# Altium footprint library HC49.PcbLib: 1 footprints
Each footprint in its own frame and in the unit in brackets; x right, y up, seen from the top. Pads: shape width x height; smd on the part's side, far side on the other; paste and mask are expansions set on the pad; w line width, h text height; cw(c..) or ccw(c..) is an arc to the next point about the centre after c.
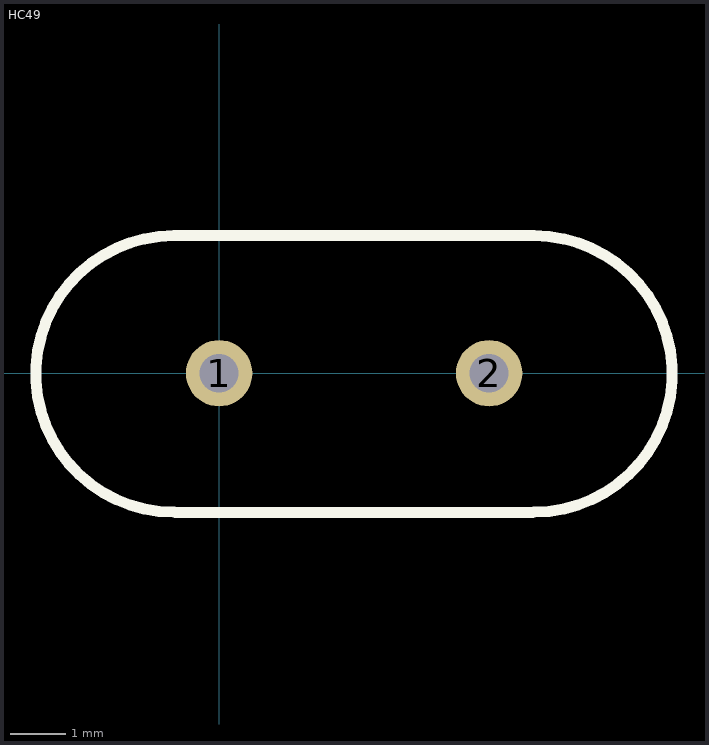
[diagram p0: the footprint, top view; thin cyan lines are the x and y axes]

## HC49 [mm]
pads (2):
  round 1.2 hole 0.7: 1(0,0) 2(4.88,0)
Top Overlay:
  lines w0.2: -0.813,-2.511 cw(c-0.813,-0.011) -0.813,2.489 5.69,2.489 cw(c5.69,-0.011) 5.69,-2.511 ; -0.787,-2.515 5.664,-2.515